# EAGLE library part CY2305SXC-1HT (library Cypress_By_element14_Batch_1)
Low Cost 3.3-V Zero Delay Buffer
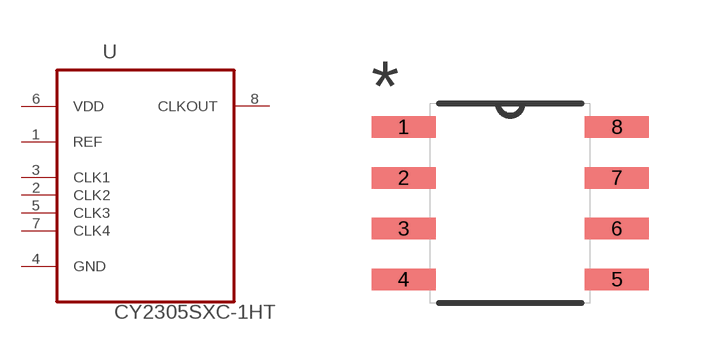
[diagram p4: symbol with the pads of SOIC127P600X172-8N; footprint SOIC127P600X172-8N]

Designator prefix U

## CY2305SXC-1HT (DESCRIPTION: Low Cost 3.3-V Zero Delay Buffer; MPN: CY2305SXC-1HT; OC_FARNELL: 1873002; OC_NEWARK: 27T9398; PACKAGE: SOIC-8; SUPPLIER: CYPRESS SEMICONDUCTOR)  [SOIC127P600X172-8N]
1  REF  in
2  CLK2  in
3  CLK1  in
4  GND  pas
5  CLK3  in
6  VDD  pwr
7  CLK4  in
8  CLKOUT  out

## Footprint SOIC127P600X172-8N (pad centres in mm)
smd 1.6 x 0.533: 1 -2.667,1.905; 2 -2.667,0.635; 3 -2.667,-0.635; 4 -2.667,-1.905; 5 2.667,-1.905; 6 2.667,-0.635; 7 2.667,0.635; 8 2.667,1.905